# Altium footprint library PoESP_ConnectorBoard.PcbLib: 11 footprints
Each footprint in its own frame and in the unit in brackets; x right, y up, seen from the top. Pads: shape width x height; smd on the part's side, far side on the other; paste and mask are expansions set on the pad; w line width, h text height; cw(c..) or ccw(c..) is an arc to the next point about the centre after c.
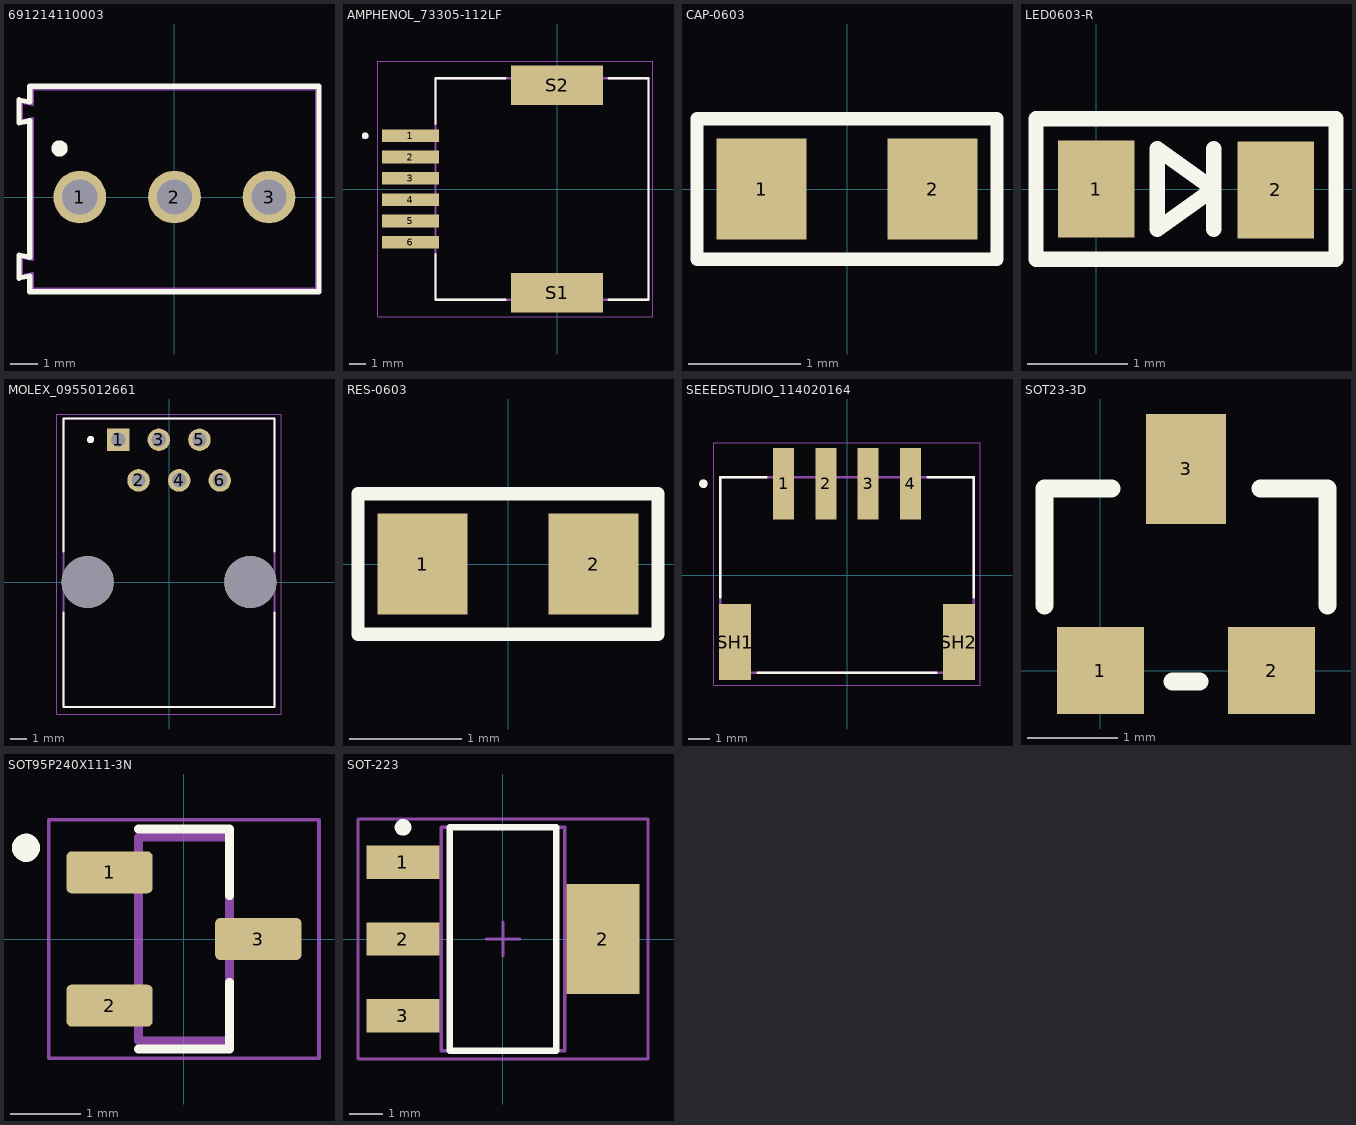
[diagram p0: the footprints below, top view; thin cyan lines are the x and y axes]

## 691214110003 [mm]
pads (3):
  round 1.95 hole 1.3: 1(-3.5,0) 2(0,0) 3(3.5,0)
Top Overlay:
  circle w0.4: c-4.25,1.8 r0.1
  lines w0.2: -5.75,-2.995 -5.75,-2.145 -5.35,-2.22 -5.35,2.82 -5.75,2.745 -5.75,3.595 -5.35,3.52 -5.35,4.1 5.35,4.1 5.35,-3.5 -5.35,-3.5 -5.35,-2.92 -5.75,-2.995
Mechanical 13:
  lines w0.1: -5.65,-2.895 -5.25,-2.82 -5.25,-3.4 5.25,-3.4 5.25,4 -5.25,4 -5.25,3.42 -5.65,3.495 -5.65,2.845 -5.25,2.92 -5.25,-2.32 -5.65,-2.245 -5.65,-2.895
3D body "691214110003--3DModel-STEP-56544.STEP": height 8.51, standoff -3.69, extent -5.577,-3.556 5.323,3.844

## AMPHENOL_73305-112LF [mm]
height 14.5
pads (8):
  rect 3.4x0.76 smd: 1(-8.75,3.175) 2(-8.75,1.905) 3(-8.75,0.635) 4(-8.75,-0.635) 5(-8.75,-1.905) 6(-8.75,-3.175)
  rect 5.5x2.35 smd: S1(0,-6.2) S2(0,6.2)
Top Overlay:
  circle w0.2: c-11.45,3.175 r0.1
  lines w0.127: -7.25,-3.875 -7.25,-6.605 -3.07,-6.605 ; -7.25,3.875 -7.25,6.605 -3.07,6.605 ; 3.07,-6.605 5.45,-6.605 5.45,6.605 3.07,6.605
Mechanical 13:
  circle w0.2: c-11.45,3.175 r0.1
  lines w0.127: -7.25,-6.605 -7.25,6.605 5.45,6.605 5.45,-6.605 -7.25,-6.605
Mechanical 15:
  lines w0.05: -10.7,-7.625 -10.7,7.625 5.7,7.625 5.7,-7.625 -10.7,-7.625
3D body "step_temp.STEP": height 14.5, standoff 0, extent -9.682,-6.855 5.618,6.855

## CAP-0603 [mm]
pads (2):
  rect 0.8x0.9 smd: 1(-0.762,0) 2(0.762,0)
Top Overlay:
  lines w0.12: -1.337,-0.625 1.336,-0.625 1.336,0.625 -1.337,0.625 -1.337,-0.625
3D body "CAPC1608(0603).STEP": height 0.6, standoff 0, extent -0.8,-0.4 0.8,0.4

## LED0603-R [mil]
pads (2):
  rect 30x38 smd: 1(0,0) 2(70.31,-0.31)
Top Overlay:
  lines w6: 45.98,-15.75 45.98,15.75 ; -23.62,-27.56 93.94,-27.56 93.94,27.56 -23.62,27.56 -23.62,-27.56 ; 23.91,-15.75 45.98,0 23.91,15.75 23.91,-15.75
3D body "SMD_0603LED_RED.STEP": height 38.43, standoff 3.78, extent 3.2,-19.68 66.82,19.69

## MOLEX_0955012661 [mm]
pads (8):
  rect 1.408x1.408 hole 0.9: 1(-3.175,8.89)
  round 1.408 hole 0.9: 2(-1.905,6.35) 3(-0.635,8.89) 4(0.635,6.35) 5(1.905,8.89) 6(3.175,6.35)
  round 3.25 hole 3.25 unplated: ""(-5.08,0) ""(5.08,0)
Top Overlay:
  circle w0.25: c-4.9,8.9 r0.1
  lines w0.127: -6.605,-1.9 -6.605,-7.8 6.605,-7.8 6.605,-1.9 ; -6.605,1.9 -6.605,10.22 6.605,10.22 6.605,1.9
Mechanical 13:
  lines w0.127: -6.605,-7.8 6.605,-7.8 6.605,10.22 -6.605,10.22 -6.605,-7.8
Mechanical 15:
  lines w0.05: -7,-8.25 7,-8.25 7,10.5 -7,10.5 -7,-8.25
3D body "0955012661.stp": height 11.51, standoff -3.29, extent -6.605,-7.874 6.605,10.226

## PCBComponent_1 [mm]

## RES-0603 [mm]
pads (2):
  rect 0.8x0.9 smd: 1(-0.762,0) 2(0.762,0)
Top Overlay:
  lines w0.12: -1.337,-0.625 -1.337,0.625 1.336,0.625 1.336,-0.625 -1.337,-0.625
3D body "0603 resistor.STEP": height 0.45, standoff 0, extent -0.8,-0.381 0.8,0.419

## SEEEDSTUDIO_114020164 [mm]
height 5.45
pads (6):
  rect 1x3.4 smd: 1(-3,4.325) 2(-1,4.325) 3(1,4.325) 4(3,4.325)
  rect 1.5x3.6 smd: SH1(-5.3,-3.175) SH2(5.3,-3.175)
Top Overlay:
  circle w0.2: c-6.8,4.325 r0.1
  lines w0.127: -6,-1.055 -6,4.625 -3.82,4.625 ; -4.23,-4.625 4.23,-4.625 ; 3.82,4.625 6,4.625 6,-1.055
Mechanical 13:
  circle w0.2: c-6.8,4.325 r0.1
  lines w0.127: -6,-4.625 -6,4.625 6,4.625 6,-4.625 -6,-4.625
Mechanical 15:
  lines w0.05: -6.3,-5.225 -6.3,6.275 6.3,6.275 6.3,-5.225 -6.3,-5.225
3D body "step_temp.STEP": height 5.2, standoff 0, extent -6,-5.15 6,5.15

## SOT23-3D [mm]
pads (3):
  rect 0.965x0.965 smd: 1(0,0) 2(1.9,0)
  rect 0.889x1.219 smd: 3(0.95,2.24)
Top Overlay:
  lines w0.2: -0.62,0.72 -0.62,2.02 0.125,2.02 ; 0.8,-0.119 1.1,-0.119 ; 1.775,2.02 2.52,2.02 2.52,0.72
3D body "DBZ0003A.stp": height 1, standoff 0, extent -0.51,-0.15 2.41,2.39

## SOT95P240X111-3N [mm]
pads (3):
  rrect25% 1.23x0.6 smd: 1(-1.06,0.95) 2(-1.06,-0.95) 3(1.06,0)
Top Overlay:
  circle w0.2: c-2.25,1.3 r0.1
  lines w0.127: -0.65,-1.57 0.65,-1.57 0.65,-0.62 ; -0.65,1.57 0.65,1.57 0.65,0.62
Mechanical 13:
  circle w0.2: c-2.25,1.3 r0.1
  lines w0.127: -0.65,-1.45 -0.65,1.45 0.65,1.45 0.65,-1.45 -0.65,-1.45
Mechanical 15:
  lines w0.05: -1.925,-1.7 1.925,-1.7 1.925,1.7 -1.925,1.7 -1.925,-1.7
3D body "step_temp.STEP": height 1.2, standoff 0, extent -1.2,-1.46 1.2,1.46

## SOT-223 [mm] "SOT223, 4-Leads, Body 6.5x3.5mm, Pitch 2.3mm, Lead Span 7mm, IPC Medium Density"
height 1.8
pads (4):
  rect 2.2x1 smd: 1(-3,2.3) 2(-3,0) 3(-3,-2.3)
  rect 2.2x3.3 smd: 2(3,0)
Top Overlay:
  circle w0.25: c-3,3.35 r0.125
  lines w0.2: -1.6,-3.35 -1.6,3.35 1.6,3.35 1.6,-3.35 -1.6,-3.35
Mechanical 13:
  lines w0.1: -1.85,-3.35 -1.85,3.35 1.85,3.35 1.85,-3.35 -1.85,-3.35
Mechanical 15:
  lines w0.1: -0.5,0 0.5,0 ; 0,-0.5 0,0.5 ; -4.35,-3.6 -4.35,3.6 4.35,3.6 4.35,-3.6 -4.35,-3.6
3D body "LD1117S33TR.stp": height 1.8, standoff 0, extent -3.475,-3.275 3.525,3.225